# Altium footprint library SSM-104-L-SH.PcbLib: 1 footprints
Each footprint in its own frame and in the unit in brackets; x right, y up, seen from the top. Pads: shape width x height; smd on the part's side, far side on the other; paste and mask are expansions set on the pad; w line width, h text height; cw(c..) or ccw(c..) is an arc to the next point about the centre after c.
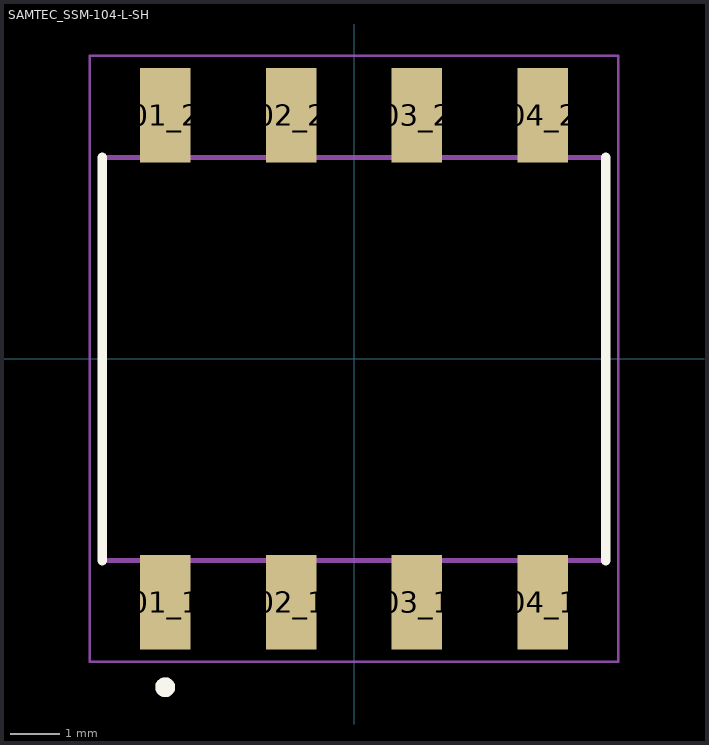
[diagram p0: the footprint, top view; thin cyan lines are the x and y axes]

## SAMTEC_SSM-104-L-SH [mm]
pads (8):
  rect 1.02x1.905 smd: 01_1(-3.81,-4.912) 01_2(-3.81,4.912) 02_1(-1.27,-4.912) 02_2(-1.27,4.912) 03_1(1.27,-4.912) 03_2(1.27,4.912) 04_1(3.81,-4.912) 04_2(3.81,4.912)
Top Overlay:
  circle w0.2: c-3.81,-6.625 r0.1
  lines w0.2: -5.08,-4.065 -5.08,4.065 ; 5.08,-4.065 5.08,4.065
Mechanical 13:
  circle w0.2: c-3.81,-6.625 r0.1
  lines w0.1: -5.08,-4.065 5.08,-4.065 5.08,4.065 -5.08,4.065 -5.08,-4.065
Mechanical 15:
  lines w0.05: -5.33,-6.115 5.33,-6.115 5.33,6.115 -5.33,6.115 -5.33,-6.115